# EAGLE library part 2X10_EDGE (library pins_1.27mm_pitch)
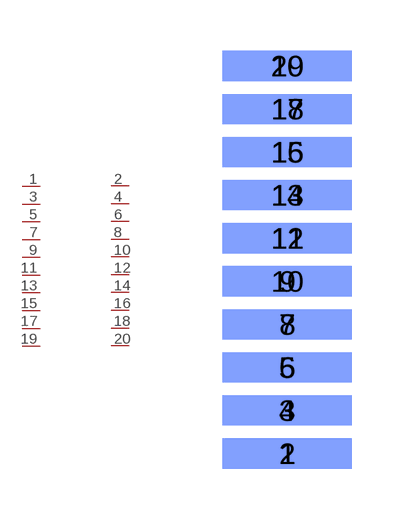
[diagram p20: symbol with the pads of 2X10_EDGE; footprint 2X10_EDGE]

Designator prefix -

## 2X10_EDGE  [2X10_EDGE]
1  P$1
2  P$2
3  P$3
4  P$4
5  P$5
6  P$6
7  P$7
8  P$8
9  P$9
10  P$10
11  P$11
12  P$12
13  P$13
14  P$14
15  P$15
16  P$16
17  P$17
18  P$18
19  P$19
20  P$20

## Footprint 2X10_EDGE (pad centres in mm)
smd 3.81 x 0.889: 1 0,0; 3 0,1.27; 5 0,2.54; 7 0,3.81; 9 0,5.08; 11 0,6.35; 13 0,7.62; 15 0,8.89; 17 0,10.16; 19 0,11.43
smd 3.81 x 0.889 bottom: 2 0,0; 4 0,1.27; 6 0,2.54; 8 0,3.81; 10 0,5.08; 12 0,6.35; 14 0,7.62; 16 0,8.89; 18 0,10.16; 20 0,11.43